# Altium schematic symbol library DansComponents.SchLib: 1 symbol
Pins are listed as number, name and electrical type; pins without a type are passive.

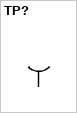
[diagram p0: symbol TP?]

## TP?
designator TP?, comment TestPoint  (value not drawn)  (no BOM)
footprint TestPoint (Bare solder pad for testing.)
pins: TP? "Copper pad for testing"